# EAGLE library part TG26-1205N1 (library 0_trafo-halo)
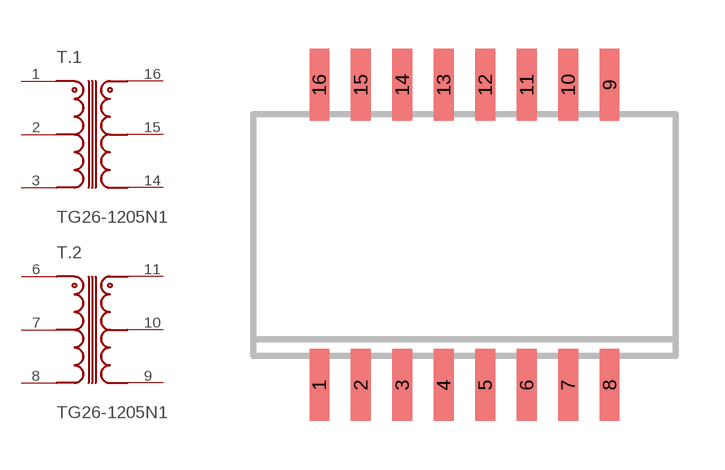
[diagram p0: symbol with the pads of SO16WW; footprint SO16WW]

Designator prefix T; gates .1=TRAFO .2=TRAFO

## TG26-1205N1  [SO16WW]
1  .1:PRI1  pas
2  .1:PRI2  pas
3  .1:PRI3  pas
6  .2:PRI1  pas
7  .2:PRI2  pas
8  .2:PRI3  pas
9  .2:SEC3  pas
10  .2:SEC2  pas
11  .2:SEC1  pas
14  .1:SEC3  pas
15  .1:SEC2  pas
16  .1:SEC1  pas

## Footprint SO16WW (pad centres in mm)
SMALL OUTLINE INTEGRATED CIRCUIT wide body 7.5 mm/JEDEC MS-013AA
smd 0.6 x 2.2: 1 -4.445,-4.6; 2 -3.175,-4.6; 3 -1.905,-4.6; 4 -0.635,-4.6; 5 0.635,-4.6; 6 1.905,-4.6; 7 3.175,-4.6; 8 4.445,-4.6; 9 4.445,4.6; 10 3.175,4.6; 11 1.905,4.6; 12 0.635,4.6; 13 -0.635,4.6; 14 -1.905,4.6; 15 -3.175,4.6; 16 -4.445,4.6